# EAGLE library part BMP085 (library SSI)
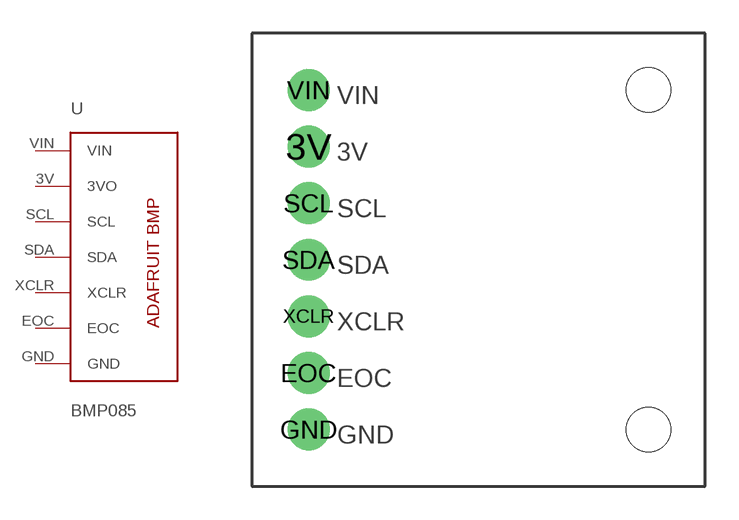
[diagram p1: symbol with the pads of BMP085; footprint BMP085]

Designator prefix -

## BMP085  [BMP085]
3V  3VO
EOC  EOC
GND  GND
SCL  SCL
SDA  SDA
VIN  VIN
XCLR  XCLR

## Footprint BMP085 (pad centres in mm)
BMP085 Pressure Sensor Untested, questionable footprint.
drill 1.016 pad 1.88: 3V -7.62,5.08; EOC -7.62,-5.08; GND -7.62,-7.62; SCL -7.62,2.54; SDA -7.62,0; VIN -7.62,7.62; XCLR -7.62,-2.54
hole 2 at 7.62,7.62
hole 2 at 7.62,-7.62